# Altium footprint library BME280.PcbLib: 1 footprints
Each footprint in its own frame and in the unit in brackets; x right, y up, seen from the top. Pads: shape width x height; smd on the part's side, far side on the other; paste and mask are expansions set on the pad; w line width, h text height; cw(c..) or ccw(c..) is an arc to the next point about the centre after c.
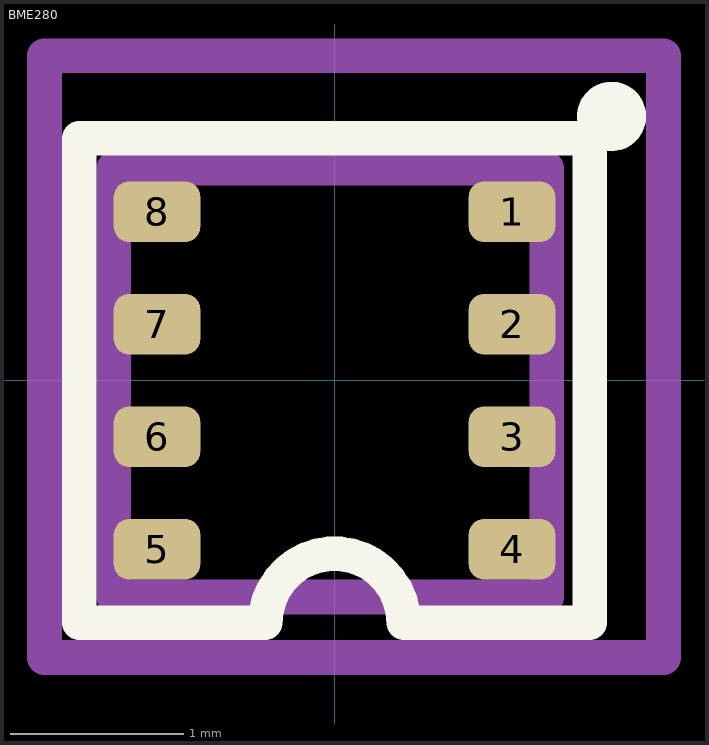
[diagram p0: the footprint, top view; thin cyan lines are the x and y axes]

## BME280 [mm]
pads (8):
  rrect50% 0.5x0.35 smd mask+0.05: 1(1.025,0.975) 2(1.025,0.325) 3(1.025,-0.325) 4(1.025,-0.975) 5(-1.025,-0.975) 6(-1.025,-0.325) 7(-1.025,0.325) 8(-1.025,0.975)
Top Overlay:
  circle w0.2: c1.6,1.525 r0.1
  lines w0.2: -1.475,-1.4 -0.4,-1.4 cw(c0,-1.4) 0.4,-1.4 1.475,-1.4 1.475,1.4 -1.475,1.4 -1.475,-1.4
Top Assembly:
  lines w0.2: -1.275,-1.25 1.225,-1.25 1.225,0.725 1.225,1.225 -1.275,1.225 -1.275,-1.25
Top Courtyard:
  lines w0.2: -1.675,-1.6 1.9,-1.6 1.9,1.875 1.7,1.875 -1.675,1.875 -1.675,-1.6
3D body "User Library-Bosch_BME280.step": height 0.93, standoff 0, extent -1.275,-1.25 1.225,1.25